# Altium footprint library DIP.PcbLib: 2 footprints
Each footprint in its own frame and in the unit in brackets; x right, y up, seen from the top. Pads: shape width x height; smd on the part's side, far side on the other; paste and mask are expansions set on the pad; w line width, h text height; cw(c..) or ccw(c..) is an arc to the next point about the centre after c.
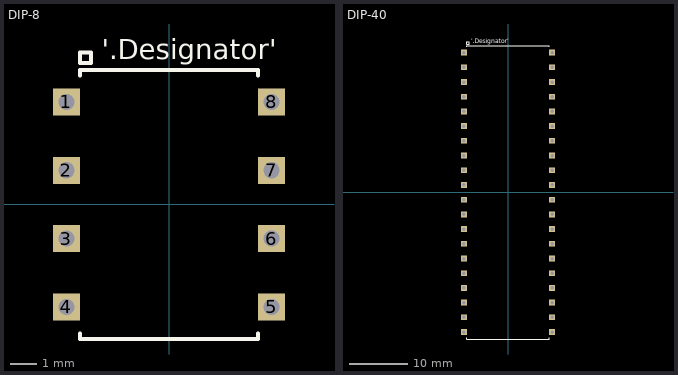
[diagram p0: the footprints below, top view; thin cyan lines are the x and y axes]

## DIP-8 [mm]
pads (8):
  rect 1x1 hole 0.6: 1(-3.81,3.81) 2(-3.81,1.27) 3(-3.81,-1.27) 4(-3.81,-3.81) 5(3.81,-3.81) 6(3.81,-1.27) 7(3.81,1.27) 8(3.81,3.81)
Top Overlay:
  lines w0.15: -3.3,-4.8 -3.3,-5 3.3,-5 3.3,-4.8 ; -3.3,4.8 -3.3,5 3.3,5 3.3,4.8 ; -3.3,5.25 -2.9,5.25 -2.9,5.65 -3.3,5.65 -3.3,5.25
  text "'.Designator'" at -2.5,5.4 h0.75

## DIP-40 [mm]
pads (40):
  rect 1x1 hole 0.6: 1(-7.62,24.13) 2(-7.62,21.59) 3(-7.62,19.05) 4(-7.62,16.51) 5(-7.62,13.97) 6(-7.62,11.43) 7(-7.62,8.89) 8(-7.62,6.35) 9(-7.62,3.81) 10(-7.62,1.27) 11(-7.62,-1.27) 12(-7.62,-3.81) 13(-7.62,-6.35) 14(-7.62,-8.89) 15(-7.62,-11.43) 16(-7.62,-13.97) 17(-7.62,-16.51) 18(-7.62,-19.05) 19(-7.62,-21.59) 20(-7.62,-24.13) 21(7.62,-24.13) 22(7.62,-21.59) 23(7.62,-19.05) 24(7.62,-16.51) 25(7.62,-13.97) 26(7.62,-11.43) 27(7.62,-8.89) 28(7.62,-6.35) 29(7.62,-3.81) 30(7.62,-1.27) 31(7.62,1.27) 32(7.62,3.81) 33(7.62,6.35) 34(7.62,8.89) 35(7.62,11.43) 36(7.62,13.97) 37(7.62,16.51) 38(7.62,19.05) 39(7.62,21.59) 40(7.62,24.13)
Top Overlay:
  lines w0.15: -7.12,-25.13 -7.12,-25.33 7.12,-25.33 7.12,-25.13 ; -7.12,25.13 -7.12,25.33 7.12,25.33 7.12,25.13 ; -7.12,25.58 -6.72,25.58 -6.72,25.98 -7.12,25.98 -7.12,25.58
  text "'.Designator'" at -6.32,25.73 h0.75